# EAGLE library part 8051MICRO (library 8051)
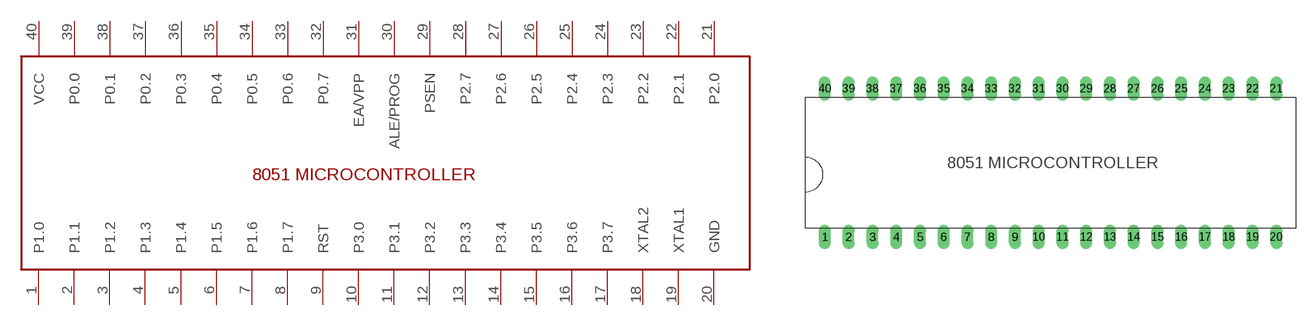
[diagram p0: symbol with the pads of 8051MICRO; footprint 8051MICRO]

Designator prefix -

## 8051MICRO8051THROUGH  [8051MICRO]
1  P1.0
2  P1.1
3  P1.2
4  P1.3
5  P1.4
6  P1.5
7  P1.6
8  P1.7
9  RST
10  P3.0
11  P3.1
12  P3.2
13  P3.3
14  P3.4
15  P3.5
16  P3.6
17  P3.7
18  XTAL2
19  XTAL1
20  GND
21  P2.0
22  P2.1
23  P2.2
24  P2.3
25  P2.4
26  P2.5
27  P2.6
28  P2.7
29  PSEN
30  ALE/PROG
31  EA/VPP
32  P0.7
33  P0.6
34  P0.5
35  P0.4
36  P0.3
37  P0.2
38  P0.1
39  P0.0
40  VCC

## Footprint 8051MICRO (pad centres in mm)
drill 0.8 long: 1 2.159,-0.953; 2 4.699,-0.953; 3 7.239,-0.953; 4 9.779,-0.953; 5 12.319,-0.953; 6 14.859,-0.953; 7 17.399,-0.953; 8 19.939,-0.953; 9 22.479,-0.953; 10 25.019,-0.953; 11 27.559,-0.953; 12 30.099,-0.953; 13 32.639,-0.953; 14 35.179,-0.953; 15 37.719,-0.953; 16 40.259,-0.953; 17 42.799,-0.953; 18 45.339,-0.953; 19 47.879,-0.953; 20 50.419,-0.953; 40 2.159,14.922
drill 0.8 pad 1.27 long: 21 50.419,14.922; 22 47.879,14.922; 23 45.339,14.922; 24 42.799,14.922; 25 40.259,14.922; 26 37.719,14.922; 27 35.179,14.922; 28 32.639,14.922; 29 30.099,14.922; 30 27.559,14.922; 31 25.019,14.922; 32 22.479,14.922; 33 19.939,14.922; 34 17.399,14.922; 35 14.859,14.922; 36 12.319,14.922; 37 9.779,14.922; 38 7.239,14.922; 39 4.699,14.922